# Altium schematic symbol library WBDesign.SchLib: 12 symbols
Pins are listed as number, name and electrical type; pins without a type are passive.

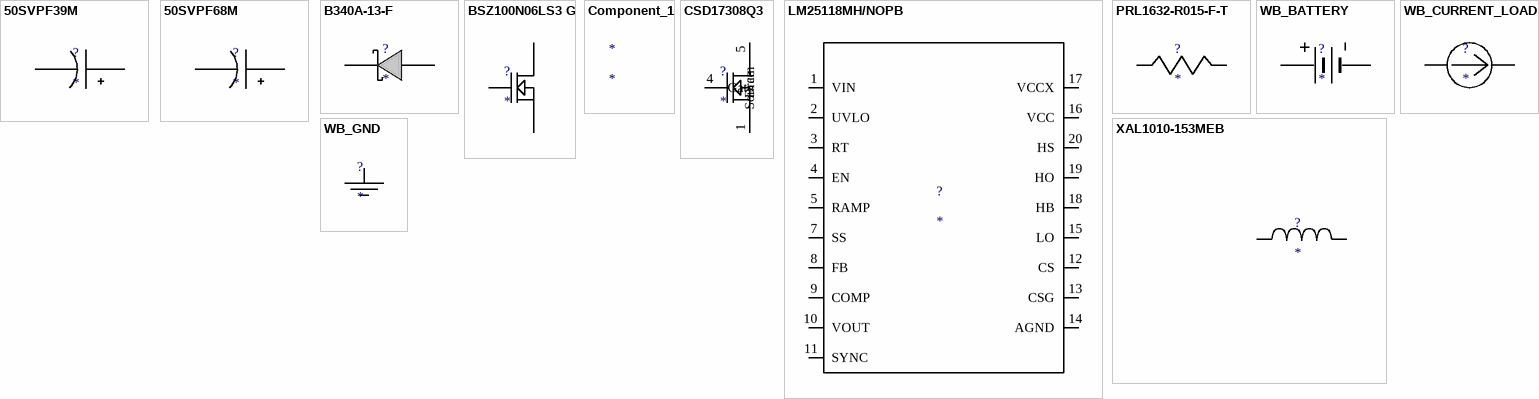
[diagram p0: symbols 50SVPF39M to XAL1010-153MEB]

## 50SVPF39M
designator ?
Imported; Manufacturer_Part_Number: 50SVPF39M; Vendor: Panasonic; Datasheet_URL: https://industrial.panasonic.com/cdbs/www-data/pdf/AAB8000/AAB8000C177.pdf; Datasheet: https://industrial.panasonic.com/cdbs/www-data/pdf/AAB8000/AAB8000C177.pdf; Manufacturer_Name: Panasonic; RefDes: RefDes; Type: DEV; Value: Value
footprint CAPSMT_62_E12
pins: 1 +, 2 -

## 50SVPF68M
designator ?
Imported; Manufacturer_Part_Number: 50SVPF68M; Vendor: Panasonic; Datasheet_URL: http://industrial.panasonic.com/www%2Ddata/pdf/AAB8000/AAB8000CE1.pdf; Manufacturer_Name: Panasonic; RefDes: RefDes; Type: DEV; Value: Value
footprint CAPSMT_62_F12
pins: 1 +, 2 -

## B340A-13-F
designator ?
Imported; Manufacturer_Part_Number: B340A-13-F; Vendor: Diodes Inc.; Datasheet_URL: http://www.diodes.com/datasheets/ds30891.pdf; Manufacturer_Name: Diodes Inc.; RefDes: RefDes; Type: DEV; Value: Value
footprint SMA
pins: 1 K, 2 A

## BSZ100N06LS3 G
designator ?
Imported; Manufacturer_Part_Number: BSZ100N06LS3 G; VdsMax: 60.0; IdsMax: 20.0; Rdson45: 0.0179; QgTyp: 34.0; Vendor: Infineon Technologies; Datasheet_URL: http://www.infineon.com/dgdl/BSZ100N06LS3%5Frev2.3.pdf?folderId%3Ddb3a30431ddc9372011ebafa04517f8b%26fileId%3Ddb3a30431ddc9372011ebb132c97000a; Quantity: 1; Manufacturer_Name: Infineon Technologies; RefDes: RefDes; Type: DEV; Value: Value
footprint PG-TSDSON-8
pins: 1 Source, 2 Source, 3 Source, 4 Gate, 5 Drain, 6 Drain, 7 Drain, 8 Drain, 9 Drain

## Component_1
designator *

## CSD17308Q3
designator ?
Imported; Manufacturer_Part_Number: CSD17308Q3; VdsMax: 30.0; IdsMax: 50.0; Rdson45: 0.0094; QgTyp: 3.9; Vendor: Texas Instruments; Datasheet_URL: http://www.ti.com/lit/ds/symlink/csd17308q3.pdf; Quantity: 1; Manufacturer_Name: Texas Instruments; RefDes: RefDes; Type: DEV; Value: Value
footprint DQG0008A
pins: 1 Source, 2 Source, 3 Source, 4 Gate, 5 Drain, 6 Drain, 7 Drain, 8 Drain, 9 Drain

## LM25118MH/NOPB
designator ?
Imported; Frequency: 500000.0; Imax: 20.0; Mktg_Package: NA; NSID: LM25118MH/NOPB; Vendor: Texas Instruments; Datasheet_URL: http://www.ti.com/product/lm25118; Package: NA; Manufacturer_Part_Number: LM25118MH/NOPB; Manufacturer_Name: Texas Instruments; RefDes: RefDes; Type: DEV; Value: Value
footprint MXA20A
pins: 1 VIN, 2 UVLO, 3 RT, 4 EN, 5 RAMP, 6 AGND, 7 SS, 8 FB, 9 COMP, 10 VOUT, 11 SYNC, 12 CS, 13 CSG, 14 AGND, 15 LO, 16 VCC, 17 VCCX, 18 HB, 19 HO, 20 HS, 21 AGND

## PRL1632-R015-F-T
designator ?
Imported; Manufacturer_Part_Number: PRL1632-R015-F-T1; Vendor: Susumu Co Ltd; Datasheet_URL: http://www.susumu%2Dusa.com/pdf/PRL%5FRL%5FData%5Fsheet.pdf; Manufacturer_Name: Susumu Co Ltd; RefDes: RefDes; Type: DEV; Value: Value
footprint 0612
pins: 1, 2

## WB_BATTERY
designator ?
Imported; Manufacturer_Part_Number: WB_BATTERY; PowerPortType: POWER_GROUND; Value: Value; Manufacturer_Name: WB_BATTERY; RefDes: RefDes; TYPE: TYPE
pins: 1 +, 2 -

## WB_CURRENT_LOAD
designator ?
Imported; Manufacturer_Part_Number: WB_CURRENT_LOAD; PowerPortType: POWER_GROUND; Value: Value; Manufacturer_Name: WB_CURRENT_LOAD; RefDes: RefDes; TYPE: TYPE
pins: 1 +, 2 -

## WB_GND
designator ?
Imported; Manufacturer_Part_Number: WB_GND; PowerPortType: POWER_GROUND; Value: Value; Manufacturer_Name: WB_GND; RefDes: RefDes; TYPE: TYPE
pins: 1

## XAL1010-153MEB
designator ?
Imported; Manufacturer_Part_Number: XAL1010-153MEB; Vendor: Coilcraft; Manufacturer_Name: Coilcraft; RefDes: RefDes; Type: DEV; Value: Value
footprint XAL1010
pins: 1, 2